# Altium schematic symbol library Crystal Oscillator.Schlib: 1 symbol
Pins are listed as number, name and electrical type; pins without a type are passive.

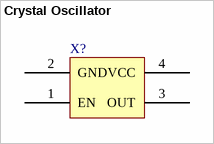
[diagram p0: symbol Crystal Oscillator]

## Crystal Oscillator
designator X?
pins: 1 EN, 2 GND, 3 OUT, 4 VCC
1 alternate drawing of the same symbol